# Altium integrated library FSMRA6JH.IntLib: 1 symbol
Pins are listed as number, name and electrical type; pins without a type are passive.

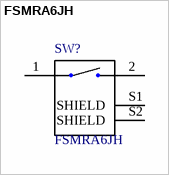
[diagram p0: symbol FSMRA6JH]

## FSMRA6JH
designator SW?
Switch, Tactile, Spno, r/a; MF: TE Connectivity; MP: FSMRA6JH; Price: 0.10 USD; Availability: Good; Package: None; Value: *
footprint TE_FSMRA6JH_FSMRA6JH(Primary)
pins: 1, 2, S1 SHIELD, S2 SHIELD